# Altium footprint library 2305018-2.PcbLib: 2 footprints
Each footprint in its own frame and in the unit in brackets; x right, y up, seen from the top. Pads: shape width x height; smd on the part's side, far side on the other; paste and mask are expansions set on the pad; w line width, h text height; cw(c..) or ccw(c..) is an arc to the next point about the centre after c.
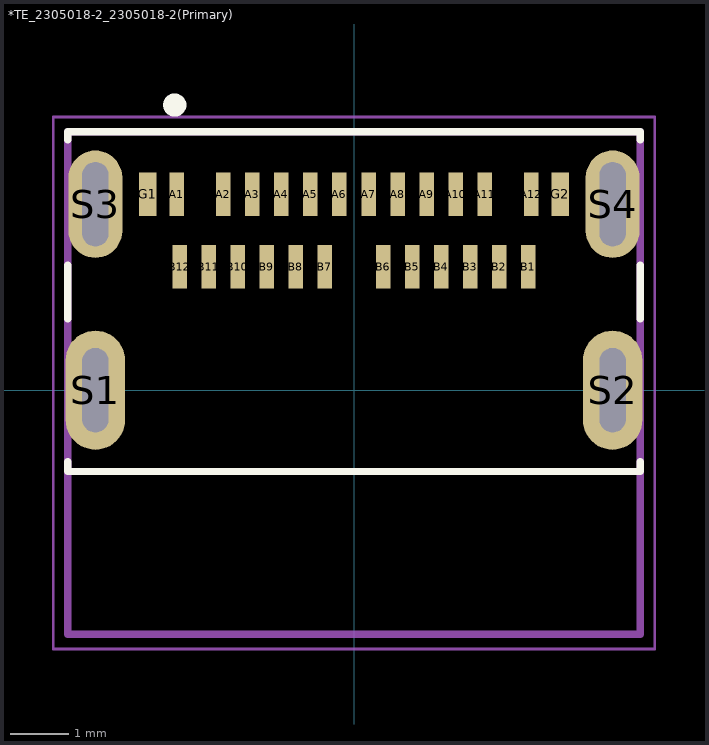
[diagram p0: the footprints below, top view; thin cyan lines are the x and y axes]

## *TE_2305018-2_2305018-2(Primary) [mm]
pads (30):
  rect 0.25x0.75 smd: A1(-3.05,3.375) A2(-2.25,3.375) A3(-1.75,3.375) A4(-1.25,3.375) A5(-0.75,3.375) A6(-0.25,3.375) A7(0.25,3.375) A8(0.75,3.375) A9(1.25,3.375) A10(1.75,3.375) A11(2.25,3.375) A12(3.05,3.375) B1(3,2.125) B2(2.5,2.125) B3(2,2.125) B4(1.5,2.125) B5(1,2.125) B6(0.5,2.125) B7(-0.5,2.125) B8(-1,2.125) B9(-1.5,2.125) B10(-2,2.125) B11(-2.5,2.125) B12(-3,2.125)
  rect 0.3x0.75 smd: G1(-3.55,3.375) G2(3.55,3.375)
  oval 1.025x2.05 hole 0.45 slot 1.45 at 90 deg: S1(-4.45,0) S2(4.45,0)
  oval 0.925x1.85 hole 0.45 slot 1.45 at 90 deg: S3(-4.45,3.2) S4(4.45,3.2)
Top Overlay:
  circle w0.2: c-3.085,4.907 r0.1
  lines w0.127: -4.925,-1.231 -4.925,-1.4 4.925,-1.4 4.925,-1.231 ; -4.925,1.231 -4.925,2.155 ; -4.925,4.309 -4.925,4.45 4.925,4.45 4.925,4.309 ; 4.925,1.231 4.925,2.155
Mechanical 1:
  lines w0.001: -4.675,-0.6 ccw(c-4.45,-0.6) -4.45,-0.825 ccw(c-4.45,-0.6) -4.225,-0.6 -4.225,0.6 ccw(c-4.45,0.6) -4.45,0.825 ccw(c-4.45,0.6) -4.675,0.6 -4.675,-0.6 ; -4.675,2.7 ccw(c-4.45,2.7) -4.45,2.475 ccw(c-4.45,2.7) -4.225,2.7 -4.225,3.7 ccw(c-4.45,3.7) -4.45,3.925 ccw(c-4.45,3.7) -4.675,3.7 -4.675,2.7 ; 4.225,-0.6 ccw(c4.45,-0.6) 4.45,-0.825 ccw(c4.45,-0.6) 4.675,-0.6 4.675,0.6 ccw(c4.45,0.6) 4.45,0.825 ccw(c4.45,0.6) 4.225,0.6 4.225,-0.6 ; 4.225,2.7 ccw(c4.45,2.7) 4.45,2.475 ccw(c4.45,2.7) 4.675,2.7 4.675,3.7 ccw(c4.45,3.7) 4.45,3.925 ccw(c4.45,3.7) 4.225,3.7 4.225,2.7
Mechanical 4:
  lines w0.127: -4.925,-4.2 -4.925,4.45 ; -4.925,-4.2 4.925,-4.2 ; -4.925,-4.2 -4.925,4.45 ; -4.925,-4.2 4.925,-4.2 ; -4.925,4.45 4.925,4.45 ; -4.925,4.45 4.925,4.45 ; 4.925,-4.2 4.925,4.45 ; 4.925,-4.2 4.925,4.45
Mechanical 16:
  lines w0.05: -5.175,-4.45 -5.175,4.7 5.175,4.7 5.175,-4.45 -5.175,-4.45
3D body "c-2305018-2-a-3d.stp": height 3.53, standoff -0.53, extent -4.918,-4.198 4.918,4.452
3D body: height 0.25, standoff 0, extent -5.207,4.699 -5.207,4.699

## PCBComponent_1 [mm]